# Altium schematic symbol library PCM2902C.SchLib: 1 symbol
Pins are listed as number, name and electrical type; pins without a type are passive.

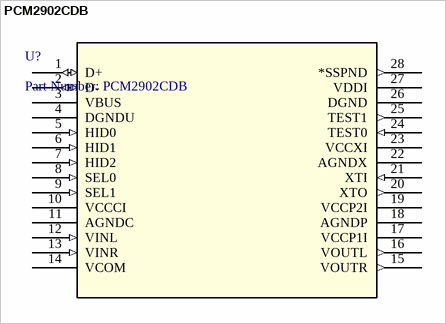
[diagram p0: symbol PCM2902CDB]

## PCM2902CDB
designator U?, comment Part Number: PCM2902CDB
Stereo Audio Codec with USB Interface, Single-Ended Analog and S/PDIF In/Out; Manufacturer: Texas Instruments; Built_By: EMA_UL_Team; Vendor: Texas Instruments; Manufacturer_Part_Number: PCM2902CDB; Copyright: Copyright (C) 2018 Accelerated Designs. All rights reserved; RefDes: RefDes; Type: DEV; Value: Value; ComponentLink1Description: Product Page; ComponentLink1URL: https://www.ti.com/product/PCM2902C
footprint SOP65P780X200-28N (SOP, 28-Leads, Body 10,20x5,30mm, Pitch 0,65mm, IPC Medium Density)
pins: 1 D+ (io), 2 D- (io), 3 VBUS (power), 4 DGNDU (power), 5 HID0 (in), 6 HID1 (in), 7 HID2 (in), 8 SEL0 (in), 9 SEL1 (in), 10 VCCCI (power), 11 AGNDC (power), 12 VINL (in), 13 VINR (in), 14 VCOM (power), 15 VOUTR (out), 16 VOUTL (out), 17 VCCP1I (power), 18 AGNDP (power), 19 VCCP2I (power), 20 XTO (out), 21 XTI (in), 22 AGNDX (power), 23 VCCXI (power), 24 TEST0 (in), 25 TEST1 (out), 26 DGND (power), 27 VDDI (power), 28 *SSPND (out)